# Altium footprint library AD7718.PcbLib: 1 footprints
Each footprint in its own frame and in the unit in brackets; x right, y up, seen from the top. Pads: shape width x height; smd on the part's side, far side on the other; paste and mask are expansions set on the pad; w line width, h text height; cw(c..) or ccw(c..) is an arc to the next point about the centre after c.
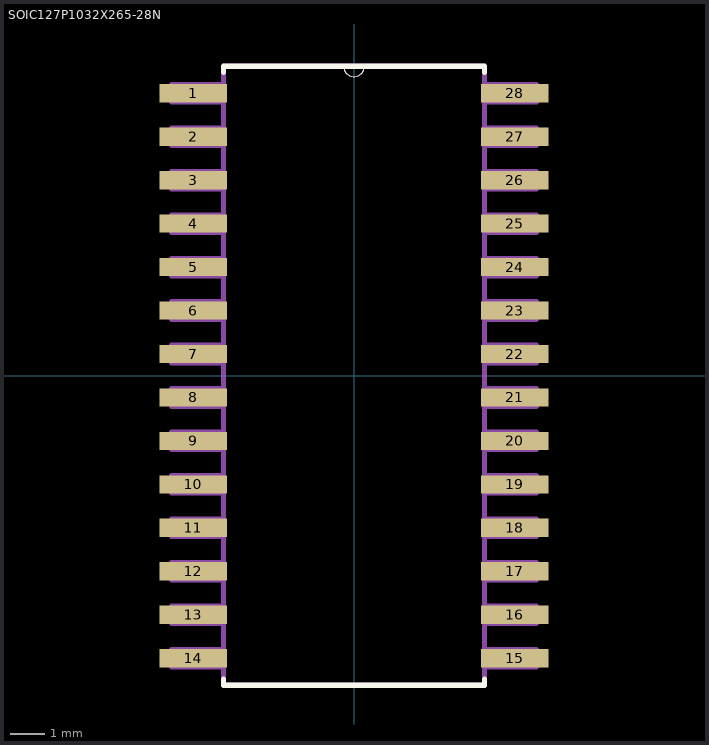
[diagram p0: the footprint, top view; thin cyan lines are the x and y axes]

## SOIC127P1032X265-28N [mil]
pads (28):
  rect 78x21 smd: 1(-185,325) 2(-185,275) 3(-185,225) 4(-185,175) 5(-185,125) 6(-185,75) 7(-185,25) 8(-185,-25) 9(-185,-75) 10(-185,-125) 11(-185,-175) 12(-185,-225) 13(-185,-275) 14(-185,-325) 15(185,-325) 16(185,-275) 17(185,-225) 18(185,-175) 19(185,-125) 20(185,-75) 21(185,-25) 22(185,25) 23(185,75) 24(185,125) 25(185,175) 26(185,225) 27(185,275) 28(185,325)
Top Overlay:
  lines w0: -12,356 ccw(c0,356) 12,356
  lines w6: -150,-349 -150,-356 150,-356 150,-349 ; -150,349 -150,356 -12,356 12,356 150,356 150,349
Mechanical 13:
  lines w0: -12,356 ccw(c0,356) 12,356
  lines w6: -210,-335 -210,-315 -150,-315 -150,-335 -210,-335 ; -210,-285 -210,-265 -150,-265 -150,-285 -210,-285 ; -210,-235 -210,-215 -150,-215 -150,-235 -210,-235 ; -210,-185 -210,-165 -150,-165 -150,-185 -210,-185 ; -210,-135 -210,-115 -150,-115 -150,-135 -210,-135 ; -210,-85 -210,-65 -150,-65 -150,-85 -210,-85 ; -210,-35 -210,-15 -150,-15 -150,-35 -210,-35 ; -210,15 -210,35 -150,35 -150,15 -210,15 ; -210,65 -210,85 -150,85 -150,65 -210,65 ; -210,115 -210,135 -150,135 -150,115 -210,115 ; -210,165 -210,185 -150,185 -150,165 -210,165 ; -210,215 -210,235 -150,235 -150,215 -210,215 ; -210,265 -210,285 -150,285 -150,265 -210,265 ; -210,315 -210,335 -150,335 -150,315 -210,315 ; -150,-356 150,-356 150,356 12,356 -12,356 -150,356 -150,-356 ; 150,-335 150,-315 210,-315 210,-335 150,-335 ; 150,-285 150,-265 210,-265 210,-285 150,-285 ; 150,-235 150,-215 210,-215 210,-235 150,-235 ; 150,-185 150,-165 210,-165 210,-185 150,-185 ; 150,-135 150,-115 210,-115 210,-135 150,-135 ; 150,-85 150,-65 210,-65 210,-85 150,-85 ; 150,-35 150,-15 210,-15 210,-35 150,-35 ; 150,15 150,35 210,35 210,15 150,15 ; 150,65 150,85 210,85 210,65 150,65 ; 150,115 150,135 210,135 210,115 150,115 ; 150,165 150,185 210,185 210,165 150,165 ; 150,215 150,235 210,235 210,215 150,215 ; 150,265 150,285 210,285 210,265 150,265 ; 150,315 150,335 210,335 210,315 150,315